# Altium footprint library PKLCS1212.PcbLib: 1 footprints
Each footprint in its own frame and in the unit in brackets; x right, y up, seen from the top. Pads: shape width x height; smd on the part's side, far side on the other; paste and mask are expansions set on the pad; w line width, h text height; cw(c..) or ccw(c..) is an arc to the next point about the centre after c.
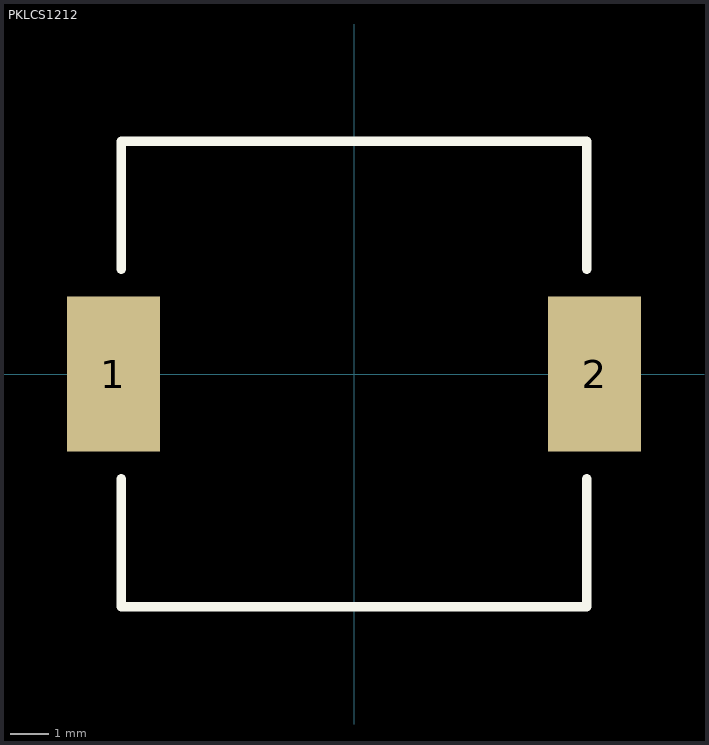
[diagram p0: the footprint, top view; thin cyan lines are the x and y axes]

## PKLCS1212 [mm]
pads (2):
  rect 2.4x4 smd: 1(-6.2,0) 2(6.2,0)
Top Overlay:
  lines w0.254: -6,-2.698 -6,-6 6,-6 6,-2.698 ; -6,2.698 -6,6 6,6 6,2.698
3D body: height 3, standoff 0, extent -5.969,-5.969 5.969,5.969